# Altium schematic symbol library PIC24FJ64GA702-I_SO.SchLib: 1 symbol
Pins are listed as number, name and electrical type; pins without a type are passive.

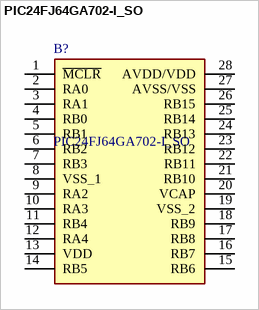
[diagram p0: symbol PIC24FJ64GA702-I_SO]

## PIC24FJ64GA702-I_SO
designator B?
16-bit Microcontrollers - MCU 16-bit, 16 MIPS, 64KB Flash, 16KB RAM; Manufacturer_Name: Microchip; Manufacturer_Part_Number: PIC24FJ64GA702-I/SO; Geometry.Height: 2.65mm; Mouser Part Number: 579-24FJ64GA702ISO; Mouser Price/Stock: https://www.mouser.co.uk/ProductDetail/Microchip-Technology/PIC24FJ64GA702-I-SO?qs=tOTLKpwhCJcpK%252BsaonbYLQ%3D%3D; Datasheet Link: *
footprint SOIC127P1030X265-28N
pins: 1 ~{MCLR}, 2 RA0, 3 RA1, 4 RB0, 5 RB1, 6 RB2, 7 RB3, 8 VSS_1, 9 RA2, 10 RA3, 11 RB4, 12 RA4, 13 VDD, 14 RB5, 15 RB6, 16 RB7, 17 RB8, 18 RB9, 19 VSS_2, 20 VCAP, 21 RB10, 22 RB11, 23 RB12, 24 RB13, 25 RB14, 26 RB15, 27 AVSS/VSS, 28 AVDD/VDD